# EAGLE library part AVR_6_PIN_ISP (library custom_lib)
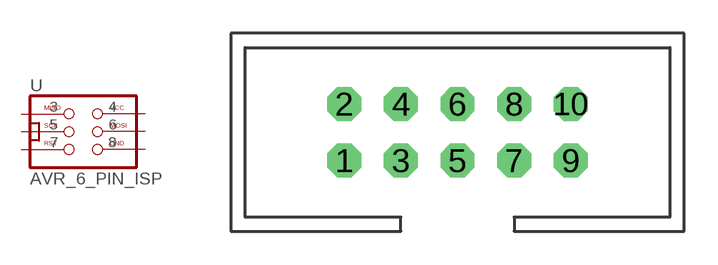
[diagram p2: symbol with the pads of 2X05; footprint 2X05]

Designator prefix -

## AVR_6_PIN_ISP  [2X05]
3  MISO  pas
4  VCC  pas
5  SCK  pas
6  MOSI  pas
7  RST  pas
8  GND  pas

## Footprint 2X05 (pad centres in mm)
PIN HEADER
drill 1.016 octagon: 1 -5.08,-1.27; 2 -5.08,1.27; 3 -2.54,-1.27; 4 -2.54,1.27; 5 0,-1.27; 6 0,1.27; 7 2.54,-1.27; 8 2.54,1.27; 9 5.08,-1.27; 10 5.08,1.27